# Altium footprint library PcbLib1.PcbLib: 1 footprints
Each footprint in its own frame and in the unit in brackets; x right, y up, seen from the top. Pads: shape width x height; smd on the part's side, far side on the other; paste and mask are expansions set on the pad; w line width, h text height; cw(c..) or ccw(c..) is an arc to the next point about the centre after c.
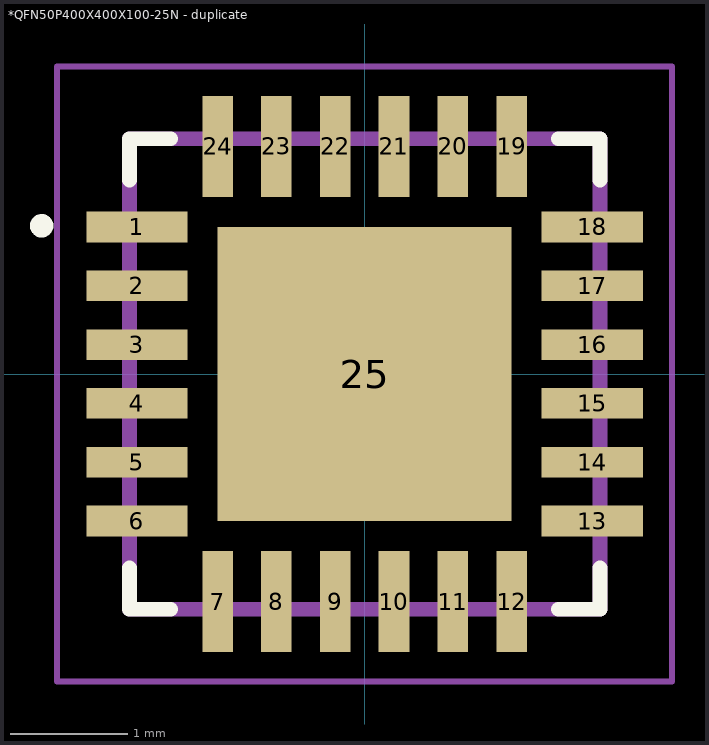
[diagram p0: the footprint, top view; thin cyan lines are the x and y axes]

## *QFN50P400X400X100-25N - duplicate [mm]
pads (25):
  rect 0.86x0.26 smd: 1(-1.935,1.25) 2(-1.935,0.75) 3(-1.935,0.25) 4(-1.935,-0.25) 5(-1.935,-0.75) 6(-1.935,-1.25) 13(1.935,-1.25) 14(1.935,-0.75) 15(1.935,-0.25) 16(1.935,0.25) 17(1.935,0.75) 18(1.935,1.25)
  rect 0.26x0.86 smd: 7(-1.25,-1.935) 8(-0.75,-1.935) 9(-0.25,-1.935) 10(0.25,-1.935) 11(0.75,-1.935) 12(1.25,-1.935) 19(1.25,1.935) 20(0.75,1.935) 21(0.25,1.935) 22(-0.25,1.935) 23(-0.75,1.935) 24(-1.25,1.935)
  rect 2.5x2.5 smd: 25(0,0)
Top Overlay:
  circle w0.1: c-2.745,1.26 r0.05
  lines w0.127: -2,-1.65 -2,-2 -1.65,-2 ; -2,1.65 -2,2 -1.65,2 ; 1.65,-2 2,-2 2,-1.65 ; 1.65,2 2,2 2,1.65
Top Paste:
  region: 0.17,1.09 1.09,1.09 1.09,0.17 0.17,0.17
  region: -1.091,1.09 -0.17,1.09 -0.17,0.17 -1.091,0.17
  region: -1.092,-0.17 -0.17,-0.17 -0.17,-1.092 -1.092,-1.092
  region: 0.17,-0.17 1.09,-0.17 1.09,-1.09 0.17,-1.09
Mechanical 4:
  circle w0.1: c-2.195,1.26 r0.05
  circle w0.1: c-2.195,1.26 r0.05
  lines w0.127: -2,-2 2,-2 ; -2,-2 -2,2 ; -2,-2 2,-2 ; -2,-2 -2,2 ; -2,2 2,2 ; -2,2 2,2 ; 2,-2 2,2 ; 2,-2 2,2
Mechanical 16:
  lines w0.05: -2.615,-2.615 -2.615,2.615 2.615,2.615 2.615,-2.615 -2.615,-2.615
3D body "LAN8720A-CP--3DModel-STEP-56544.STEP": height 1.01, standoff 0.01, extent -2,-2 2,2